# Altium schematic symbol library SIMBOLS_SCH.SchLib: 2 symbols
Pins are listed as number, name and electrical type; pins without a type are passive.

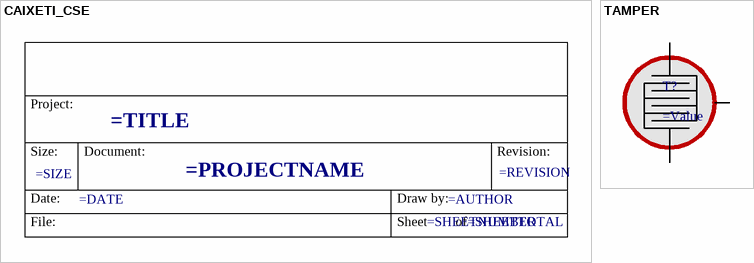
[diagram p0: symbols CAIXETI_CSE to TAMPER]

## CAIXETI_CSE
designator *  (value not drawn)  (no BOM)
Titol: =TITLE; Revisio: =REVISION; Sheet: =SHEETNUMBER; NumberOfSheets: =SHEETTOTAL; Tamany: =SIZE; Nom: =PROJECTNAME; Autor: =AUTHOR; Data: =DATE
text: Project:; Size:; Document:; Revision:; Date:; Draw by:; File:; Sheet        of

## TAMPER
designator T?
pins: 1, 2, 3